# Altium schematic symbol library SCH - SENSOR - TEMPERATURE - NXP LM75BTP.Schlib: 1 symbol
Pins are listed as number, name and electrical type; pins without a type are passive.

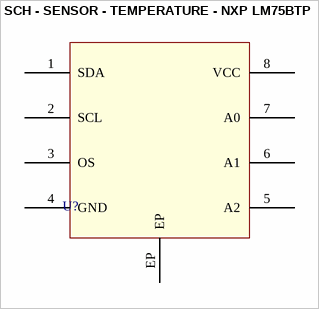
[diagram p0: symbol SCH - SENSOR - TEMPERATURE - NXP LM75BTP]

## SCH - SENSOR - TEMPERATURE - NXP LM75BTP
designator U?
footprint 8-WFDFN EP / 8-HWSON (2x3)
pins: 1 SDA, 2 SCL, 3 OS, 4 GND, 5 A2, 6 A1, 7 A0, 8 VCC, EP